# Altium integrated library CL05A105KL5NRNC.IntLib: 1 symbol
Pins are listed as number, name and electrical type; pins without a type are passive.

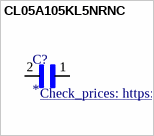
[diagram p0: symbol CL05A105KL5NRNC]

## CL05A105KL5NRNC
designator C?
1ÂµF Â±10% 35V Ceramic Capacitor X5R 0402 (1005 Metric); MP: CL05A105KL5NRNC; MF: Samsung; SnapEDA_Link: https://www.snapeda.com/parts/CL05A105KL5NRNC/Samsung/view-part/3598233/?ref=snap; Price: None; DigiKey-Purchase-URL: https://snapeda.com/shop?store=DigiKey&id=3598233; Package: 0402 Samsung; Mouser-Purchase-URL: https://snapeda.com/shop?store=Mouser&id=3598233; Value: *; Availability: Warning; Check_prices: https://www.snapeda.com/parts/CL05A105KL5NRNC/Samsung/view-part/3598233/?ref=eda
footprint CAPC1005X55N
pins: 1, 2